# Altium schematic symbol library FPGA_CONN.SchLib: 1 symbol
Pins are listed as number, name and electrical type; pins without a type are passive.

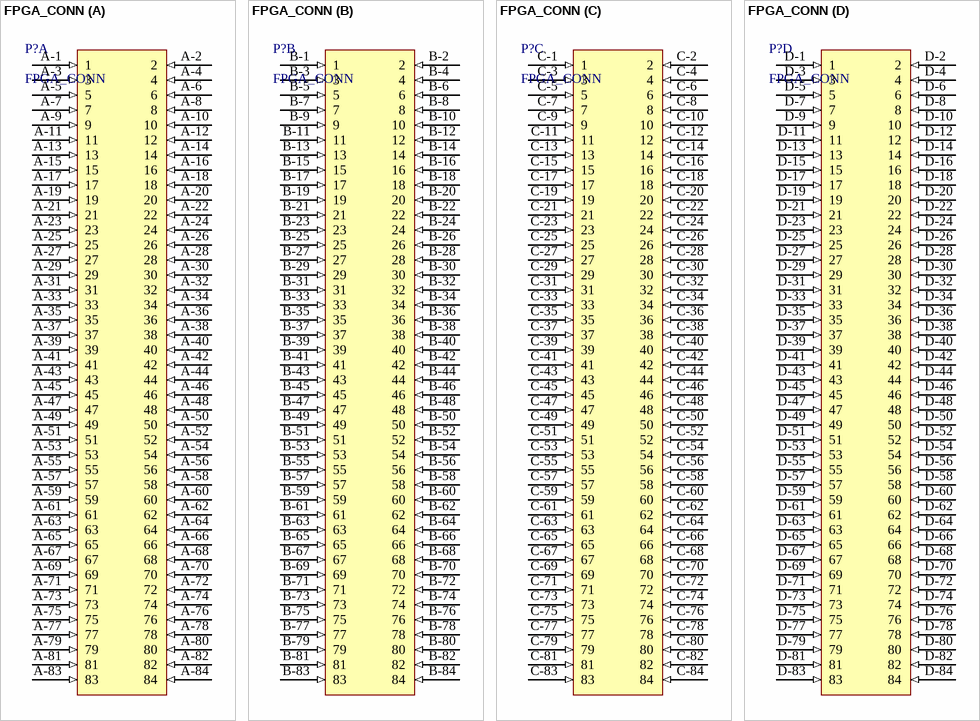
[diagram p0: symbol FPGA_CONN]

## FPGA_CONN
designator P?
footprint FPGA_CONN
part A pins: A-1 1 (in), A-2 2 (in), A-3 3 (in), A-4 4 (in), A-5 5 (in), A-6 6 (in), A-7 7 (in), A-8 8 (in), A-9 9 (in), A-10 10 (in), A-11 11 (in), A-12 12 (in), A-13 13 (in), A-14 14 (in), A-15 15 (in), A-16 16 (in), A-17 17 (in), A-18 18 (in), A-19 19 (in), A-20 20 (in), A-21 21 (in), A-22 22 (in), A-23 23 (in), A-24 24 (in), A-25 25 (in), A-26 26 (in), A-27 27 (in), A-28 28 (in), A-29 29 (in), A-30 30 (in), A-31 31 (in), A-32 32 (in), A-33 33 (in), A-34 34 (in), A-35 35 (in), A-36 36 (in), A-37 37 (in), A-38 38 (in), A-39 39 (in), A-40 40 (in), A-41 41 (in), A-42 42 (in), A-43 43 (in), A-44 44 (in), A-45 45 (in), A-46 46 (in), A-47 47 (in), A-48 48 (in), A-49 49 (in), A-50 50 (in), A-51 51 (in), A-52 52 (in), A-53 53 (in), A-54 54 (in), A-55 55 (in), A-56 56 (in), A-57 57 (in), A-58 58 (in), A-59 59 (in), A-60 60 (in), A-61 61 (in), A-62 62 (in), A-63 63 (in), A-64 64 (in), A-65 65 (in), A-66 66 (in), A-67 67 (in), A-68 68 (in), A-69 69 (in), A-70 70 (in), A-71 71 (in), A-72 72 (in), A-73 73 (in), A-74 74 (in), A-75 75 (in), A-76 76 (in), A-77 77 (in), A-78 78 (in), A-79 79 (in), A-80 80 (in), A-81 81 (in), A-82 82 (in), A-83 83 (in), A-84 84 (in)
part B pins: B-1 1 (in), B-2 2 (in), B-3 3 (in), B-4 4 (in), B-5 5 (in), B-6 6 (in), B-7 7 (in), B-8 8 (in), B-9 9 (in), B-10 10 (in), B-11 11 (in), B-12 12 (in), B-13 13 (in), B-14 14 (in), B-15 15 (in), B-16 16 (in), B-17 17 (in), B-18 18 (in), B-19 19 (in), B-20 20 (in), B-21 21 (in), B-22 22 (in), B-23 23 (in), B-24 24 (in), B-25 25 (in), B-26 26 (in), B-27 27 (in), B-28 28 (in), B-29 29 (in), B-30 30 (in), B-31 31 (in), B-32 32 (in), B-33 33 (in), B-34 34 (in), B-35 35 (in), B-36 36 (in), B-37 37 (in), B-38 38 (in), B-39 39 (in), B-40 40 (in), B-41 41 (in), B-42 42 (in), B-43 43 (in), B-44 44 (in), B-45 45 (in), B-46 46 (in), B-47 47 (in), B-48 48 (in), B-49 49 (in), B-50 50 (in), B-51 51 (in), B-52 52 (in), B-53 53 (in), B-54 54 (in), B-55 55 (in), B-56 56 (in), B-57 57 (in), B-58 58 (in), B-59 59 (in), B-60 60 (in), B-61 61 (in), B-62 62 (in), B-63 63 (in), B-64 64 (in), B-65 65 (in), B-66 66 (in), B-67 67 (in), B-68 68 (in), B-69 69 (in), B-70 70 (in), B-71 71 (in), B-72 72 (in), B-73 73 (in), B-74 74 (in), B-75 75 (in), B-76 76 (in), B-77 77 (in), B-78 78 (in), B-79 79 (in), B-80 80 (in), B-81 81 (in), B-82 82 (in), B-83 83 (in), B-84 84 (in)
part C pins: C-1 1 (in), C-2 2 (in), C-3 3 (in), C-4 4 (in), C-5 5 (in), C-6 6 (in), C-7 7 (in), C-8 8 (in), C-9 9 (in), C-10 10 (in), C-11 11 (in), C-12 12 (in), C-13 13 (in), C-14 14 (in), C-15 15 (in), C-16 16 (in), C-17 17 (in), C-18 18 (in), C-19 19 (in), C-20 20 (in), C-21 21 (in), C-22 22 (in), C-23 23 (in), C-24 24 (in), C-25 25 (in), C-26 26 (in), C-27 27 (in), C-28 28 (in), C-29 29 (in), C-30 30 (in), C-31 31 (in), C-32 32 (in), C-33 33 (in), C-34 34 (in), C-35 35 (in), C-36 36 (in), C-37 37 (in), C-38 38 (in), C-39 39 (in), C-40 40 (in), C-41 41 (in), C-42 42 (in), C-43 43 (in), C-44 44 (in), C-45 45 (in), C-46 46 (in), C-47 47 (in), C-48 48 (in), C-49 49 (in), C-50 50 (in), C-51 51 (in), C-52 52 (in), C-53 53 (in), C-54 54 (in), C-55 55 (in), C-56 56 (in), C-57 57 (in), C-58 58 (in), C-59 59 (in), C-60 60 (in), C-61 61 (in), C-62 62 (in), C-63 63 (in), C-64 64 (in), C-65 65 (in), C-66 66 (in), C-67 67 (in), C-68 68 (in), C-69 69 (in), C-70 70 (in), C-71 71 (in), C-72 72 (in), C-73 73 (in), C-74 74 (in), C-75 75 (in), C-76 76 (in), C-77 77 (in), C-78 78 (in), C-79 79 (in), C-80 80 (in), C-81 81 (in), C-82 82 (in), C-83 83 (in), C-84 84 (in)
part D pins: D-1 1 (in), D-2 2 (in), D-3 3 (in), D-4 4 (in), D-5 5 (in), D-6 6 (in), D-7 7 (in), D-8 8 (in), D-9 9 (in), D-10 10 (in), D-11 11 (in), D-12 12 (in), D-13 13 (in), D-14 14 (in), D-15 15 (in), D-16 16 (in), D-17 17 (in), D-18 18 (in), D-19 19 (in), D-20 20 (in), D-21 21 (in), D-22 22 (in), D-23 23 (in), D-24 24 (in), D-25 25 (in), D-26 26 (in), D-27 27 (in), D-28 28 (in), D-29 29 (in), D-30 30 (in), D-31 31 (in), D-32 32 (in), D-33 33 (in), D-34 34 (in), D-35 35 (in), D-36 36 (in), D-37 37 (in), D-38 38 (in), D-39 39 (in), D-40 40 (in), D-41 41 (in), D-42 42 (in), D-43 43 (in), D-44 44 (in), D-45 45 (in), D-46 46 (in), D-47 47 (in), D-48 48 (in), D-49 49 (in), D-50 50 (in), D-51 51 (in), D-52 52 (in), D-53 53 (in), D-54 54 (in), D-55 55 (in), D-56 56 (in), D-57 57 (in), D-58 58 (in), D-59 59 (in), D-60 60 (in), D-61 61 (in), D-62 62 (in), D-63 63 (in), D-64 64 (in), D-65 65 (in), D-66 66 (in), D-67 67 (in), D-68 68 (in), D-69 69 (in), D-70 70 (in), D-71 71 (in), D-72 72 (in), D-73 73 (in), D-74 74 (in), D-75 75 (in), D-76 76 (in), D-77 77 (in), D-78 78 (in), D-79 79 (in), D-80 80 (in), D-81 81 (in), D-82 82 (in), D-83 83 (in), D-84 84 (in)